# EAGLE library part MICROSD_READER (library CRD)
Leitor e gravador de cartão SD
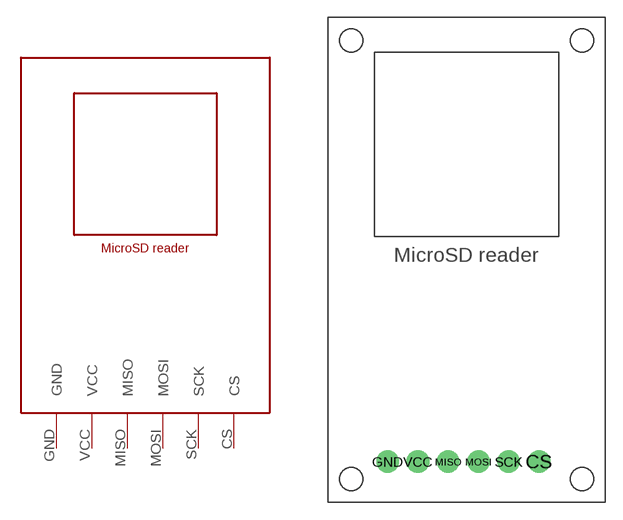
[diagram p2: symbol with the pads of MICROSD_READER_FOOTPRINT; footprint MICROSD_READER_FOOTPRINT]

Designator prefix -

## MICROSD_READER  [MICROSD_READER_FOOTPRINT]
CS  CS
GND  GND
MISO  MISO
MOSI  MOSI
SCK  SCK
VCC  VCC

## Footprint MICROSD_READER_FOOTPRINT (pad centres in mm)
drill 1.3: CS 6.195,-14.534; GND -6.905,-14.534; MISO -1.665,-14.534; MOSI 0.955,-14.534; SCK 3.575,-14.534; VCC -4.285,-14.534